# Altium footprint library alexsb.PCBLIB: 444 footprints (part 6 of 28)
Each footprint in its own frame and in the unit in brackets; x right, y up, seen from the top. Pads: shape width x height; smd on the part's side, far side on the other; paste and mask are expansions set on the pad; w line width, h text height; cw(c..) or ccw(c..) is an arc to the next point about the centre after c.
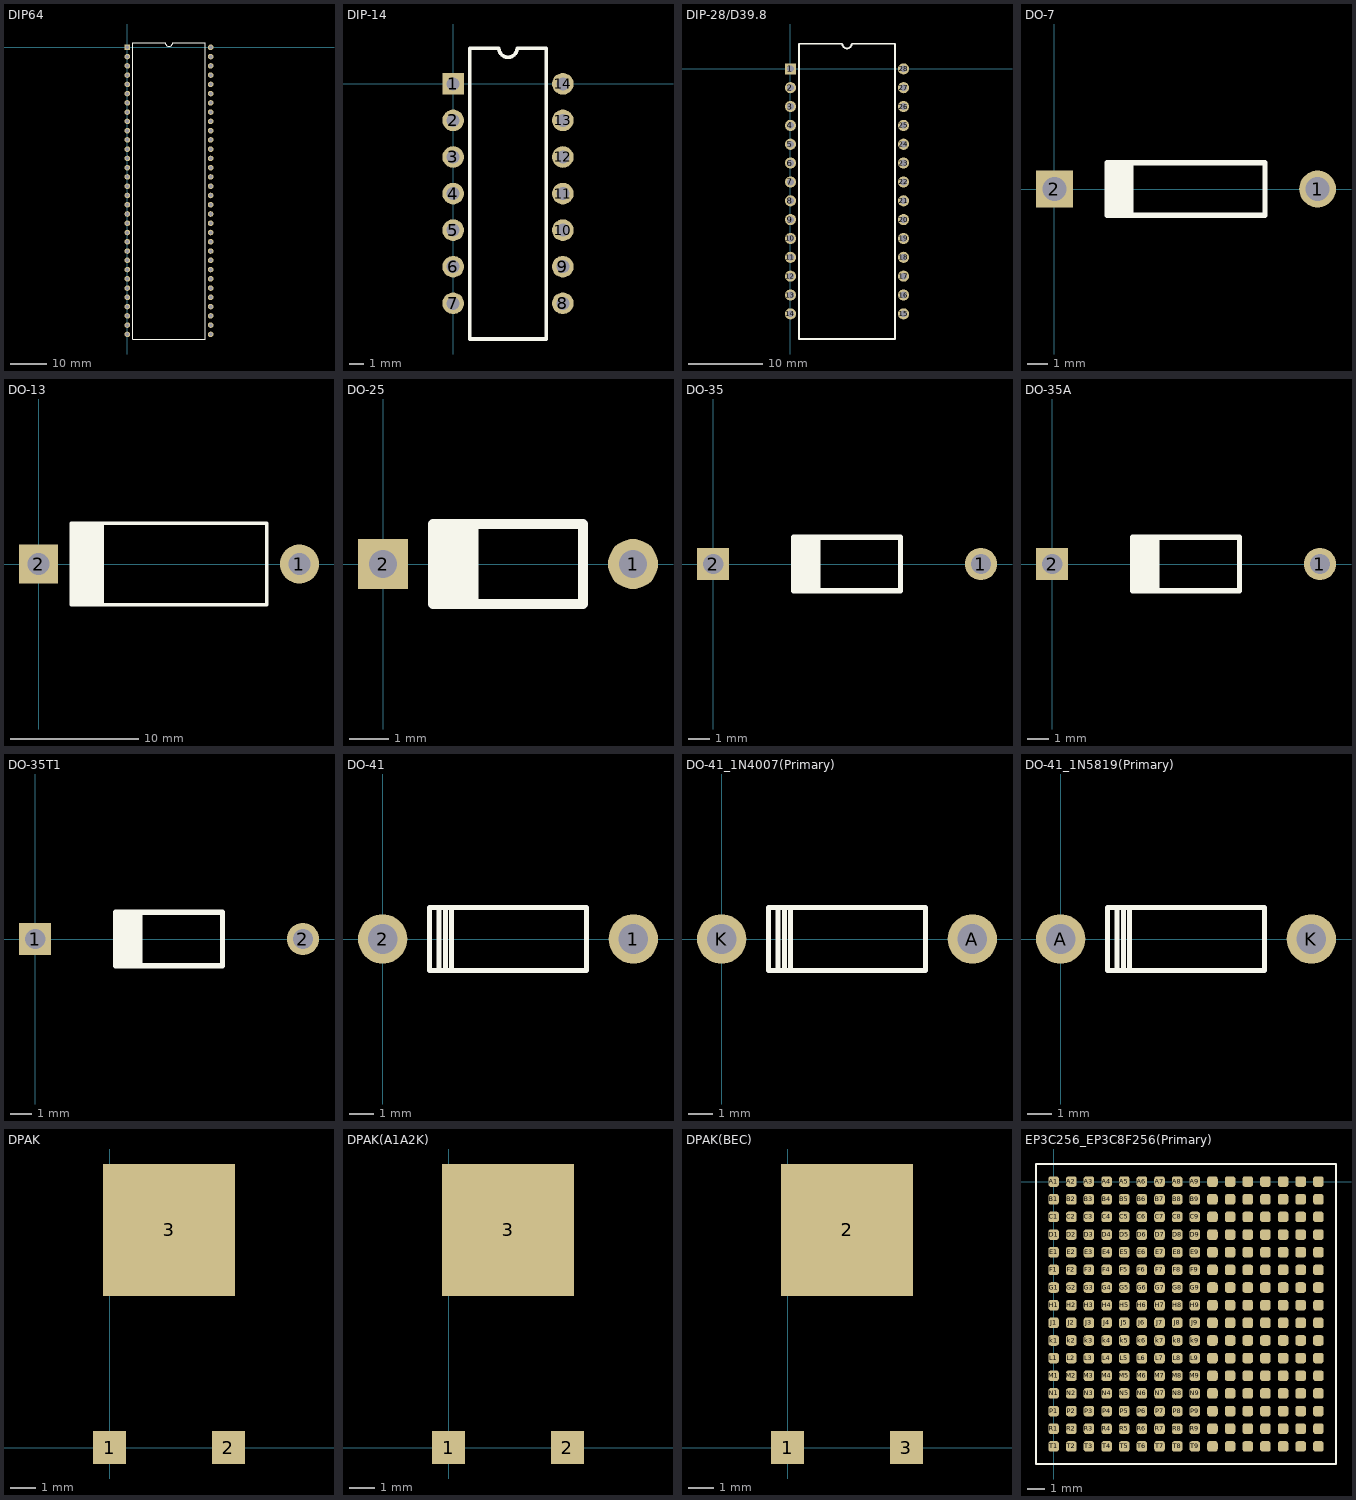
[diagram p5: the footprints below, top view; thin cyan lines are the x and y axes]

## DIP64 [mil]
pads (64):
  rect 60x60 hole 38: 1(0,0)
  round 60 hole 38: 2(0,-100) 3(0,-200) 4(0,-300) 5(0,-400) 6(0,-500) 7(0,-600) 8(0,-700) 9(0,-800) 10(0,-900) 11(0,-1000) 12(0,-1100) 13(0,-1200) 14(0,-1300) 15(0,-1400) 16(0,-1500) 17(0,-1600) 18(0,-1700) 19(0,-1800) 20(0,-1900) 21(0,-2000) 22(0,-2100) 23(0,-2200) 24(0,-2300) 25(0,-2400) 26(0,-2500) 27(0,-2600) 28(0,-2700) 29(0,-2800) 30(0,-2900) 31(0,-3000) 32(0,-3100) 33(900,-3100) 34(900,-3000) 35(900,-2900) 36(900,-2800) 37(900,-2700) 38(900,-2600) 39(900,-2500) 40(900,-2400) 41(900,-2300) 42(900,-2200) 43(900,-2100) 44(900,-2000) 45(900,-1900) 46(900,-1800) 47(900,-1700) 48(900,-1600) 49(900,-1500) 50(900,-1400) 51(900,-1300) 52(900,-1200) 53(900,-1100) 54(900,-1000) 55(900,-900) 56(900,-800) 57(900,-700) 58(900,-600) 59(900,-500) 60(900,-400) 61(900,-300) 62(900,-200) 63(900,-100) 64(900,0)
Top Overlay:
  lines w10: 830,-3150 60,-3150 ; 60,-3150 60,50 410,50 ccw(c450,50) 490,50 840,50 840,-3150 60,-3150

## DIP-14 [mm]
pads (14):
  rect 1.5x1.5 hole 0.9: 1(0,0)
  round 1.5 hole 0.9: 2(0,-2.54) 3(0,-5.08) 4(0,-7.62) 5(0,-10.16) 6(0,-12.7) 7(0,-15.24) 8(7.62,-15.24) 9(7.62,-12.7) 10(7.62,-10.16) 11(7.62,-7.62) 12(7.62,-5.08) 13(7.62,-2.54) 14(7.62,0)
Top Overlay:
  lines w0.25: 1.16,-17.72 1.16,2.48 3.175,2.48 ccw(c3.81,2.48) 4.445,2.48 6.46,2.48 6.46,-17.72 1.16,-17.72

## DIP-28/D39.8 [mm]
pads (28):
  rect 1.5x1.5 hole 0.9: 1(0,0)
  round 1.5 hole 0.9: 2(0,-2.54) 3(0,-5.08) 4(0,-7.62) 5(0,-10.16) 6(0,-12.7) 7(0,-15.24) 8(0,-17.78) 9(0,-20.32) 10(0,-22.86) 11(0,-25.4) 12(0,-27.94) 13(0,-30.48) 14(0,-33.02) 15(15.24,-33.02) 16(15.24,-30.48) 17(15.24,-27.94) 18(15.24,-25.4) 19(15.24,-22.86) 20(15.24,-20.32) 21(15.24,-17.78) 22(15.24,-15.24) 23(15.24,-12.7) 24(15.24,-10.16) 25(15.24,-7.62) 26(15.24,-5.08) 27(15.24,-2.54) 28(15.24,0)
Top Overlay:
  lines w0.25: 1.17,-36.41 1.17,3.39 6.985,3.39 ccw(c7.62,3.39) 8.255,3.39 14.07,3.39 14.07,-36.41 1.17,-36.41

## DO-7 [mil]
pads (2):
  round 70 hole 46: 1(500,0)
  rect 70x70 hole 46: 2(0,0)
Top Overlay:
  region: 100,-50 150,-50 150,50 100,50
  lines w10: 100,-50 100,50 400,50 400,-50 100,-50

## DO-13 [mil]
pads (2):
  round 120 hole 68: 1(800,0)
  rect 120x120 hole 68: 2(0,0)
Top Overlay:
  region: 100,-125 200,-125 200,125 100,125
  region: 100,-125 175,-125
  lines w10: 100,-125 700,-125 700,125 100,125 100,-125

## DO-25 [mil]
pads (2):
  round 50 hole 28: 1(250,0)
  rect 50x50 hole 28: 2(0,0)
Top Overlay:
  region: 95,-40 95,40 50,40 50,-40
  lines w10: 50,-40 50,40 200,40 200,-40 50,-40

## DO-35 [mil]
pads (2):
  round 60 hole 38: 1(500,0)
  rect 60x60 hole 38: 2(0,0)
Top Overlay:
  region: 150,-50 175,-50
  region: 150,-50 200,-50 200,50 150,50
  lines w10: 150,-50 350,-50 350,50 150,50 150,-50

## DO-35A [mil]
pads (2):
  round 60 hole 38: 1(500,0)
  rect 60x60 hole 38: 2(0,0)
Top Overlay:
  region: 150,-50 200,-50 200,50 150,50
  region: 150,-50 175,-50
  lines w10: 150,-50 150,50 350,50 350,-50 150,-50

## DO-35T1 [mil]
pads (2):
  rect 60x60 hole 38: 1(0,0)
  round 60 hole 38: 2(500,0)
Top Overlay:
  region: 150,-50 175,-50
  region: 150,-50 200,-50 200,50 150,50
  lines w10: 150,-50 350,-50 350,50 150,50 150,-50

## DO-41 [mm]
pads (2):
  round 2 hole 1.2: 1(10.16,0) 2(0,0)
Top Overlay:
  lines w0.2: 2.286,-1.27 2.286,1.27 ; 2.54,-1.27 2.54,1.27 ; 2.794,-1.27 2.794,1.27 ; 1.905,-1.27 8.255,-1.27 8.255,1.27 1.905,1.27 1.905,-1.27

## DO-41_1N4007(Primary) [mm]
pads (2):
  round 2 hole 1.2: A(10.16,0) K(0,0)
Top Overlay:
  lines w0.2: 2.286,-1.27 2.286,1.27 ; 2.54,-1.27 2.54,1.27 ; 2.794,-1.27 2.794,1.27 ; 1.905,-1.27 8.255,-1.27 8.255,1.27 1.905,1.27 1.905,-1.27

## DO-41_1N5819(Primary) [mm]
pads (2):
  round 2 hole 1.2: A(0,0) K(10.16,0)
Top Overlay:
  lines w0.2: 2.286,-1.27 2.286,1.27 ; 2.54,-1.27 2.54,1.27 ; 2.794,-1.27 2.794,1.27 ; 1.905,-1.27 8.255,-1.27 8.255,1.27 1.905,1.27 1.905,-1.27

## DPAK [mil]
pads (3):
  rect 50x50 smd: 1(0,0) 2(180,0)
  rect 200x200 smd: 3(90,330)

## DPAK(A1A2K) [mil]
pads (3):
  rect 50x50 smd: 1(0,0) 2(180,0)
  rect 200x200 smd: 3(90,330)

## DPAK(BEC) [mil]
pads (3):
  rect 50x50 smd: 1(0,0) 3(180,0)
  rect 200x200 smd: 2(90,330)

## EP3C256_EP3C8F256(Primary) [mm]
pads (256):
  rrect50% 0.6x0.6 smd: A1(0,0) A2(1,0) A3(2,0) A4(3,0) A5(4,0) A6(5,0) A7(6,0) A8(7,0) A9(8,0) A10(9,0) A11(10,0) A12(11,0) A13(12,0) A14(13,0) A15(14,0) A16(15,0) B1(0,-1) B2(1,-1) B3(2,-1) B4(3,-1) B5(4,-1) B6(5,-1) B7(6,-1) B8(7,-1) B9(8,-1) B10(9,-1) B11(10,-1) B12(11,-1) B13(12,-1) B14(13,-1) B15(14,-1) B16(15,-1) C1(0,-2) C2(1,-2) C3(2,-2) C4(3,-2) C5(4,-2) C6(5,-2) C7(6,-2) C8(7,-2) C9(8,-2) C10(9,-2) C11(10,-2) C12(11,-2) C13(12,-2) C14(13,-2) C15(14,-2) C16(15,-2) D1(0,-3) D2(1,-3) D3(2,-3) D4(3,-3) D5(4,-3) D6(5,-3) D7(6,-3) D8(7,-3) D9(8,-3) D10(9,-3) D11(10,-3) D12(11,-3) D13(12,-3) D14(13,-3) D15(14,-3) D16(15,-3) E1(0,-4) E2(1,-4) E3(2,-4) E4(3,-4) E5(4,-4) E6(5,-4) E7(6,-4) E8(7,-4) E9(8,-4) E10(9,-4) E11(10,-4) E12(11,-4) E13(12,-4) E14(13,-4) E15(14,-4) E16(15,-4) F1(0,-5) F2(1,-5) F3(2,-5) F4(3,-5) F5(4,-5) F6(5,-5) F7(6,-5) F8(7,-5) F9(8,-5) F10(9,-5) F11(10,-5) F12(11,-5) F13(12,-5) F14(13,-5) F15(14,-5) F16(15,-5) G1(0,-6) G2(1,-6) G3(2,-6) G4(3,-6) G5(4,-6) G6(5,-6) G7(6,-6) G8(7,-6) G9(8,-6) G10(9,-6) G11(10,-6) G12(11,-6) G13(12,-6) G14(13,-6) G15(14,-6) G16(15,-6) H1(0,-7) H2(1,-7) H3(2,-7) H4(3,-7) H5(4,-7) H6(5,-7) H7(6,-7) H8(7,-7) H9(8,-7) H10(9,-7) H11(10,-7) H12(11,-7) H13(12,-7) H14(13,-7) H15(14,-7) H16(15,-7) J1(0,-8) J2(1,-8) J3(2,-8) J4(3,-8) J5(4,-8) J6(5,-8) J7(6,-8) J8(7,-8) J9(8,-8) J10(9,-8) J11(10,-8) J12(11,-8) J13(12,-8) J14(13,-8) J15(14,-8) J16(15,-8) k1(0,-9) k2(1,-9) k3(2,-9) k4(3,-9) k5(4,-9) k6(5,-9) k7(6,-9) k8(7,-9) k9(8,-9) k10(9,-9) k11(10,-9) k12(11,-9) k13(12,-9) k14(13,-9) k15(14,-9) k16(15,-9) L1(0,-10) L2(1,-10) L3(2,-10) L4(3,-10) L5(4,-10) L6(5,-10) L7(6,-10) L8(7,-10) L9(8,-10) L10(9,-10) L11(10,-10) L12(11,-10) L13(12,-10) L14(13,-10) L15(14,-10) L16(15,-10) M1(0,-11) M2(1,-11) M3(2,-11) M4(3,-11) M5(4,-11) M6(5,-11) M7(6,-11) M8(7,-11) M9(8,-11) M10(9,-11) M11(10,-11) M12(11,-11) M13(12,-11) M14(13,-11) M15(14,-11) M16(15,-11) N1(0,-12) N2(1,-12) N3(2,-12) N4(3,-12) N5(4,-12) N6(5,-12) N7(6,-12) N8(7,-12) N9(8,-12) N10(9,-12) N11(10,-12) N12(11,-12) N13(12,-12) N14(13,-12) N15(14,-12) N16(15,-12) P1(0,-13) P2(1,-13) P3(2,-13) P4(3,-13) P5(4,-13) P6(5,-13) P7(6,-13) P8(7,-13) P9(8,-13) P10(9,-13) P11(10,-13) P12(11,-13) P13(12,-13) P14(13,-13) P15(14,-13) P16(15,-13) R1(0,-14) R2(1,-14) R3(2,-14) R4(3,-14) R5(4,-14) R6(5,-14) R7(6,-14) R8(7,-14) R9(8,-14) R10(9,-14) R11(10,-14) R12(11,-14) R13(12,-14) R14(13,-14) R15(14,-14) R16(15,-14) T1(0,-15) T2(1,-15) T3(2,-15) T4(3,-15) T5(4,-15) T6(5,-15) T7(6,-15) T8(7,-15) T9(8,-15) T10(9,-15) T11(10,-15) T12(11,-15) T13(12,-15) T14(13,-15) T15(14,-15) T16(15,-15)
Top Overlay:
  lines w0.1: -1,-16 16,-16 16,1 -1,1 -1,-16